# Altium schematic symbol library 原理图库.SchLib: 26 symbols
Pins are listed as number, name and electrical type; pins without a type are passive.

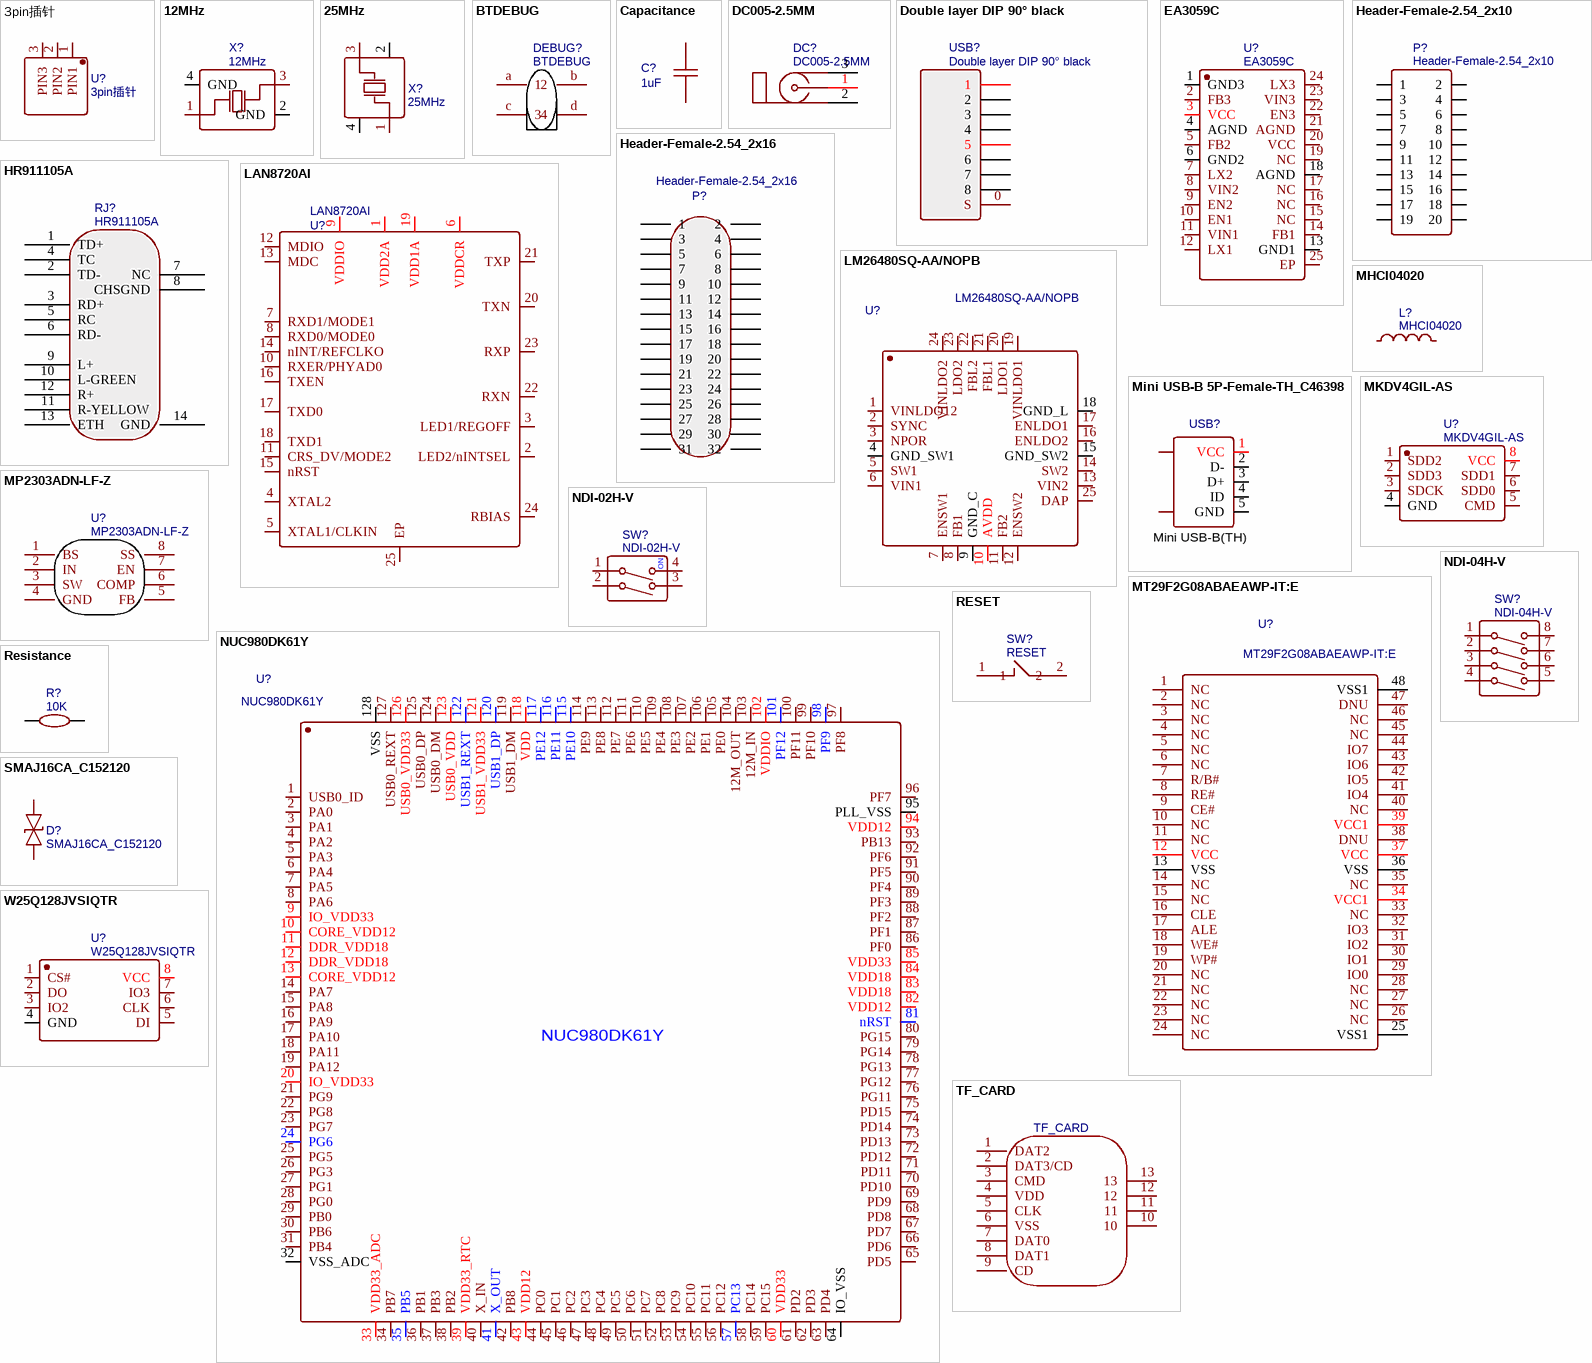
[diagram p0: symbols 3pin插针 to W25Q128JVSIQTR]

## 3pin插针
designator U?
Contributor: DesignMyself; BOM_Manufacturer Part: 3pin插针; spicePre: U
footprint 3PIN插针
footprint HDR-3X1/2.54
pins: 1 PIN1, 2 PIN2, 3 PIN3

## 12MHz
designator X?
BOM_Manufacturer: YXC; BOM_Manufacturer Part: X322512MSB4SI; nameAlias: Frequency; BOM_Supplier: LCSC; BOM_LCSC Assembly: Yes; BOM_Supplier Part: C9002; spicePre: X; spiceSymbolName: X322512MSB4SI
footprint OSC-YSX-3225_4P
pins: 1 OSC1, 2 GND, 3 OSC2, 4 GND

## 25MHz
designator X?
BOM_Manufacturer: YXC; BOM_Manufacturer Part: X322525MOB4SI; nameAlias: Frequency; SMT Type: Basic; BOM_Supplier: LCSC; BOM_LCSC Assembly: Yes; BOM_Supplier Part: C9006; spicePre: X; spiceSymbolName: X322525MOB4SI
footprint OSC-YSX-3225_4P
pins: 1 OSC1, 2 GND, 3 OSC2, 4 GND

## BTDEBUG
designator DEBUG?
Contributor: wode320; sourceId: oYS93lDVP; timeStamp: 1450252921; BOM_Manufacturer Part: ?; spicePre: U
footprint 4PINO
pins: a 1, b 2, c 3, d 4

## Capacitance
designator C?, comment 1uF
BOM_Manufacturer: SAMSUNG; BOM_Manufacturer Part: CL10A106KP8NNNC; nameAlias: Capacitance; BOM_Supplier: LCSC; BOM_LCSC Assembly: Yes; BOM_Supplier Part: C19702; spicePre: C; spiceSymbolName: CL10A106KP8NNNC
footprint 0603
pins: 1, 2

## DC005-2.5MM
designator DC?
BOM_Manufacturer: SOFNG; BOM_Supplier: LCSC; BOM_Manufacturer Part: DC005-2.5MM; BOM_Supplier Part: C111573; spicePre: D
footprint DC-5020
pins: 1 VCC, 2, 3

## Double layer DIP 90° black
designator USB?
BOM_Manufacturer: ValuePro; BOM_Supplier: LCSC; BOM_Manufacturer Part: Double layer DIP 90° black; image: //image.lceda.cn/szlcsc/C12049.jpg; BOM_Supplier Part: C12049; spicePre: U
footprint USB-M-51
pins: 0 S, 1, 2, 3, 4, 5, 6, 7, 8

## EA3059C
designator U?
BOM_Manufacturer: Everanalog; BOM_Manufacturer Part: EA3059; SMT Type: Extend; Contributor: 13603072355; BOM_Supplier: LCSC; BOM_Supplier Part: C111586x; BOM_LCSC Assembly: Yes; spicePre: U
footprint QFN-24_4X4X05P
pins: 1 GND3, 2 FB3, 3 VCC, 4 AGND, 5 FB2, 6 GND2, 7 LX2, 8 VIN2, 9 EN2, 10 EN1, 11 VIN1, 12 LX1, 13 GND1, 14 FB1, 15 NC, 16 NC, 17 NC, 18 AGND, 19 NC, 20 VCC, 21 AGND, 22 EN3, 23 VIN3, 24 LX3, 25 EP

## Header-Female-2.54_2x10
designator P?
BOM_Manufacturer: BOOMELE; BOM_Manufacturer Part: 2.54mm,2×10Double row female; BOM_Supplier: LCSC; image: //image.lceda.cn/szlcsc/C30867.jpg; BOM_Supplier Part: C30867; spicePre: P
footprint HDR-10X2/2.54
pins: 1, 2, 3, 4, 5, 6, 7, 8, 9, 10, 11, 12, 13, 14, 15, 16, 17, 18, 19, 20

## Header-Female-2.54_2x16
designator P?
BOM_Manufacturer: EasyEDA; BOM_EasyEDA: E55795; BOM_Supplier Part: E55795; BOM_Supplier: EasyEDA; BOM_Manufacturer Part: Header-Female-2.54_2x16; spicePre: P
footprint HDR-16X2/2.54
pins: 1, 2, 3, 4, 5, 6, 7, 8, 9, 10, 11, 12, 13, 14, 15, 16, 17, 18, 19, 20, 21, 22, 23, 24, 25, 26, 27, 28, 29, 30, 31, 32

## HR911105A
designator RJ?
BOM_Manufacturer: HANRUN; BOM_Supplier: LCSC; BOM_Manufacturer Part: HR911105A; image: //image.lceda.cn/szlcsc/C12074.jpg; BOM_Supplier Part: C12074; spicePre: R
footprint RJ45-LIGHT
pins: 1 TD+, 2 TD-, 3 RD+, 4 TC, 5 RC, 6 RD-, 7 NC, 8 CHSGND, 9 L+, 10 L-GREEN, 11 R-YELLOW, 12 R+, 13 ETH, 14 GND

## LAN8720AI
designator U?
BOM_Manufacturer: SMSC; BOM_Manufacturer Part: LAN8720AI-CP-TR; Contributor: hexunyu; BOM_Supplier Part: C17146; BOM_Supplier: LCSC; spicePre: U
footprint QFN-24_4X4X05P
pins: 1 VDD2A, 2 LED2/nINTSEL, 3 LED1/REGOFF, 4 XTAL2, 5 XTAL1/CLKIN, 6 VDDCR, 7 RXD1/MODE1, 8 RXD0/MODE0, 9 VDDIO, 10 RXER/PHYAD0, 11 CRS_DV/MODE2, 12 MDIO, 13 MDC, 14 nINT/REFCLKO, 15 nRST, 16 TXEN, 17 TXD0, 18 TXD1, 19 VDD1A, 20 TXN, 21 TXP, 22 RXN, 23 RXP, 24 RBIAS, 25 EP

## LM26480SQ-AA/NOPB
designator U?
BOM_Manufacturer: TI; Contributor: LCSC; SMT Type: Extend; BOM_Supplier: LCSC; BOM_Manufacturer Part: LM26480SQ-AA/NOPB; BOM_Supplier Part: C131997; BOM_LCSC Assembly: Yes; spicePre: U; spiceSymbolName: LM26480SQ-AA/NOPB
footprint WQFN-24_L4.0-W4.0-P0.50-BL-EP
pins: 1 VINLDO12, 2 SYNC, 3 NPOR, 4 GND_SW1, 5 SW1, 6 VIN1, 7 ENSW1, 8 FB1, 9 GND_C, 10 AVDD, 11 FB2, 12 ENSW2, 13 VIN2, 14 SW2, 15 GND_SW2, 16 ENLDO2, 17 ENLDO1, 18 GND_L, 19 VINLDO1, 20 LDO1, 21 FBL1, 22 FBL2, 23 LDO2, 24 VINLDO2, 25 DAP

## MHCI04020
designator L?
BOM_Manufacturer: Chilisin Elec; BOM_Manufacturer Part: MHCI04020-1R5M-R8; nameAlias: Inductance; Contributor: LCSC; BOM_Supplier: LCSC; BOM_Supplier Part: C285743; spicePre: L; spiceSymbolName: MHCI04020-1R5M-R8
footprint L-SMD-4.1X4.6
pins: 1, 2

## Mini USB-B 5P-Female-TH_C46398
designator USB?  (value not drawn)
BOM_Manufacturer: ValuePro; BOM_Manufacturer Part: MINI 5PFemale90Degree plate four feet copper shell LCPVinyl; BOM_Supplier: LCSC; image: //image.lceda.cn/szlcsc/C46398.jpg; BOM_Supplier Part: C46398; spicePre: U
footprint USB-MINI-2
pins: 0, 0, 1 VCC, 2 D-, 3 D+, 4 ID, 5 GND
text: Mini USB-B(TH)

## MKDV4GIL-AS
designator U?
BOM_Manufacturer: MK; Contributor: LCSC; BOM_Supplier: LCSC; BOM_Supplier Part: C379093; BOM_Manufacturer Part: MKDV4GIL-AS; spicePre: U
footprint LGA-8_8PIN-L6.10-W8.10-PITCH0.65-TL
pins: 1 SDD2, 2 SDD3, 3 SDCK, 4 GND, 5 CMD, 6 SDD0, 7 SDD1, 8 VCC

## MP2303ADN-LF-Z
designator U?
BOM_Manufacturer: MPS; SMT Type: Basic; BOM_Supplier: LCSC; BOM_Manufacturer Part: MP2303ADN-LF-Z; BOM_LCSC Assembly: Yes; image: //image.lceda.cn/szlcsc/C18876.jpg; BOM_Supplier Part: C18876; spicePre: U
footprint SOIC-8_EP_150MIL
pins: 1 BS, 2 IN, 3 SW, 4 GND, 5 FB, 6 COMP, 7 EN, 8 SS

## MT29F2G08ABAEAWP-IT:E
designator U?
BOM_Manufacturer: Micron; Contributor: LCSC; SMT Type: Extend; BOM_Supplier: LCSC; BOM_Manufacturer Part: MT29F2G08ABAEAWP-IT:E; BOM_Supplier Part: C110896; BOM_LCSC Assembly: Yes; spicePre: U
footprint TSOP-48
pins: 1 NC, 2 NC, 3 NC, 4 NC, 5 NC, 6 NC, 7 R/B#, 8 RE#, 9 CE#, 10 NC, 11 NC, 12 VCC, 13 VSS, 14 NC, 15 NC, 16 CLE, 17 ALE, 18 WE#, 19 WP#, 20 NC, 21 NC, 22 NC, 23 NC, 24 NC, 25 VSS1, 26 NC, 27 NC, 28 NC, 29 IO0, 30 IO1, 31 IO2, 32 IO3, 33 NC, 34 VCC1, 35 NC, 36 VSS, 37 VCC, 38 DNU, 39 VCC1, 40 NC, 41 IO4, 42 IO5, 43 IO6, 44 IO7, 45 NC, 46 NC, 47 DNU, 48 VSS1

## NDI-02H-V
designator SW?
BOM_Manufacturer: Diptronics; Contributor: LCSC; BOM_Supplier: LCSC; BOM_Supplier Part: C224999; BOM_Manufacturer Part: NDI-02H-V; spicePre: S
footprint NDI-02H-V
pins: 1, 2, 3, 4
text: ON

## NDI-04H-V
designator SW?
BOM_Manufacturer: Diptronics; Contributor: LCSC; BOM_Supplier: LCSC; BOM_Supplier Part: C225000; BOM_Manufacturer Part: NDI-04H-V; spicePre: S
footprint NDI-04H-V
pins: 1, 2, 3, 4, 5, 6, 7, 8

## NUC980DK61Y
designator U?
Contributor: 13603072355; BOM_Manufacturer Part: ?; spicePre: U
footprint LQFP-128_14X14X04P
pins: 1 USB0_ID, 2 PA0, 3 PA1, 4 PA2, 5 PA3, 6 PA4, 7 PA5, 8 PA6, 9 IO_VDD33, 10 CORE_VDD12, 11 DDR_VDD18, 12 DDR_VDD18, 13 CORE_VDD12, 14 PA7, 15 PA8, 16 PA9, 17 PA10, 18 PA11, 19 PA12, 20 IO_VDD33, 21 PG9, 22 PG8, 23 PG7, 24 PG6, 25 PG5, 26 PG3, 27 PG1, 28 PG0, 29 PB0, 30 PB6, 31 PB4, 32 VSS_ADC, 33 VDD33_ADC, 34 PB7, 35 PB5, 36 PB1, 37 PB3, 38 PB2, 39 VDD33_RTC, 40 X_IN, 41 X_OUT, 42 PB8, 43 VDD12, 44 PC0, 45 PC1, 46 PC2, 47 PC3, 48 PC4, 49 PC5, 50 PC6, 51 PC7, 52 PC8, 53 PC9, 54 PC10, 55 PC11, 56 PC12, 57 PC13, 58 PC14, 59 PC15, 60 VDD33, 61 PD2, 62 PD3, 63 PD4, 64 IO_VSS, 65 PD5, 66 PD6, 67 PD7, 68 PD8, 69 PD9, 70 PD10, 71 PD11, 72 PD12, 73 PD13, 74 PD14, 75 PD15, 76 PG11, 77 PG12, 78 PG13, 79 PG14, 80 PG15, 81 nRST, 82 VDD12, 83 VDD18, 84 VDD18, 85 VDD33, 86 PF0, 87 PF1, 88 PF2, 89 PF3, 90 PF4, 91 PF5, 92 PF6, 93 PB13, 94 VDD12, 95 PLL_VSS, 96 PF7, 97 PF8, 98 PF9, 99 PF10, 100 PF11, 101 PF12, 102 VDDIO, 103 12M_IN, 104 12M_OUT, 105 PE0, 106 PE1, 107 PE2, 108 PE3, 109 PE4, 110 PE5, 111 PE6, 112 PE7, 113 PE8, 114 PE9, 115 PE10, 116 PE11, 117 PE12, 118 VDD, 119 USB1_DM, 120 USB1_DP, 121 USB1_VDD33, 122 USB1_REXT, 123 USB0_VDD, 124 USB0_DM, 125 USB0_DP, 126 USB0_VDD33, 127 USB0_REXT, 128 VSS

## RESET
designator SW?
BOM_Manufacturer: HYP; BOM_Manufacturer Part: 1TS002B-1900-4300; Contributor: LCSC; BOM_Supplier: LCSC; BOM_Supplier Part: C318823; spicePre: S
footprint KEY-TOUCH-SMD-6.0*3.5*H-(A)
pins: 1, 2

## Resistance
designator R?, comment 10K
BOM_Manufacturer: UniOhm; BOM_Manufacturer Part: 0603WAF1003T5E; nameAlias: Resistance (Ohms); SMT Type: Basic; BOM_Supplier: LCSC; BOM_LCSC Assembly: Yes; BOM_Supplier Part: C25803; spicePre: R; spiceSymbolName: 0603WAF1003T5E
footprint 0603
pins: 1, 2

## SMAJ16CA_C152120
designator D?
BOM_Manufacturer: Bourne Semicon (Shenzhen); Contributor: LCSC; SMT Type: Extend; BOM_Supplier: LCSC; BOM_Supplier Part: C152120; BOM_Manufacturer Part: SMAJ16CA; BOM_LCSC Assembly: Yes; spicePre: D
footprint SMA(DO-214AC)-DOB
pins: 1 K, 2 A

## TF_CARD
designator TF_CARD?
Contributor: ration; BOM_Manufacturer Part: ?; BOM_Supplier Part: undefined; spicePre: H
footprint TF-115_MRS
pins: 1 DAT2, 2 DAT3/CD, 3 CMD, 4 VDD, 5 CLK, 6 VSS, 7 DAT0, 8 DAT1, 9 CD, 10, 11, 12, 13

## W25Q128JVSIQTR
designator U?
BOM_Manufacturer: WINBOND; SMT Type: Basic; BOM_Supplier: LCSC; BOM_Manufacturer Part: W25Q128JVSIQTR; BOM_Supplier Part: C97521; BOM_LCSC Assembly: Yes; spicePre: U
footprint SOIC-8_208MIL
pins: 1 CS#, 2 DO, 3 IO2, 4 GND, 5 DI, 6 CLK, 7 IO3, 8 VCC